# Altium schematic symbol library Component.SchLib: 23 symbols
Pins are listed as number, name and electrical type; pins without a type are passive.

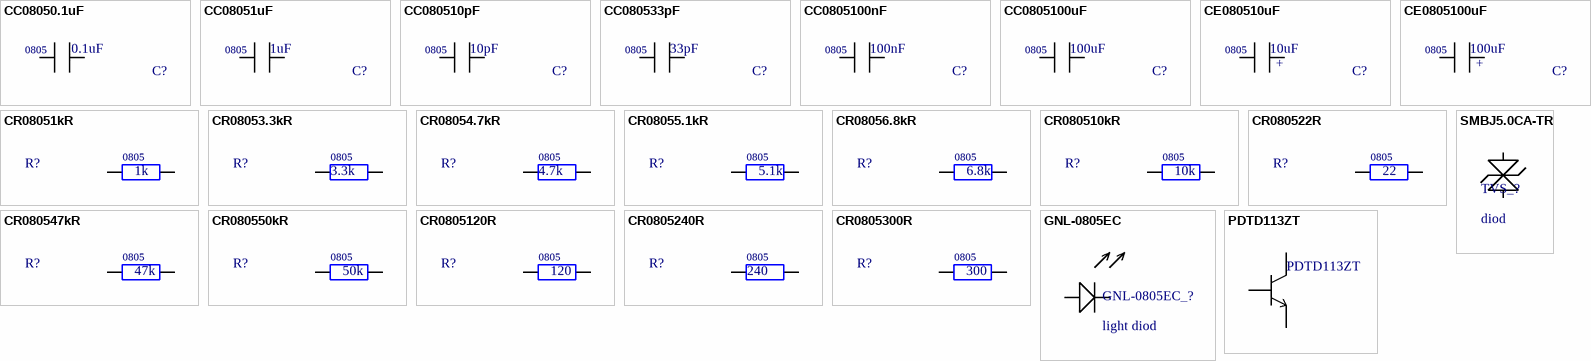
[diagram p0: symbols CC08050.1uF to SMBJ5.0CA-TR]

## CC08050.1uF
designator C?, comment capacitor  (value not drawn)
CC0805_0.1uF; Value: 0.1uF
footprint СС0805 (L = 2;  e=0.7; w=1.25)
pins: 2, 3
text: 0805

## CC08051uF
designator C?, comment capacitor  (value not drawn)
CC0805_1uF; Value: 1uF
footprint СС0805 (L = 2;  e=0.7; w=1.25)
pins: 2, 3
text: 0805

## CC080510pF
designator C?, comment capacitor  (value not drawn)
CC0808_10pF; Value: 10pF
footprint СС0805 (L = 2;  e=0.7; w=1.25)
pins: 2, 3
text: 0805

## CC080533pF
designator C?  (value not drawn)
CC0805_33pF; Value: 33pF
footprint СС0805 (L = 2;  e=0.7; w=1.25)
pins: 2, 3
text: 0805

## CC0805100nF
designator C?, comment capacitor  (value not drawn)
CC0805_100nF; Value: 100nF
footprint СС0805 (L = 2;  e=0.7; w=1.25)
pins: 2, 3
text: 0805

## CC0805100uF
designator C?, comment capacitor  (value not drawn)
CC0805_100uF; Value: 100uF
footprint СС0805 (L = 2;  e=0.7; w=1.25)
pins: 2, 3
text: 0805

## CE080510uF
designator C?, comment capacitor  (value not drawn)
CE0805_10uF; Value: 10uF
footprint CAP JAMOCON
pins: 2, 3
text: 0805; +

## CE0805100uF
designator C?, comment capacitor  (value not drawn)
CE0805_100uF JAMOCON; Value: 100uF
footprint CAP JAMOCON
pins: 2, 3
text: 0805; +

## CR08051kR
designator R?, comment Resistor  (value not drawn)
CR0805_1kR; Value: 1k
footprint R0805 (test_resisot H = 0.5+-0.1 l=0.35+-0.20  L = 2+-0.1)
pins: 0, 1
text: 0805

## CR08053.3kR
designator R?, comment Resistor  (value not drawn)
CR0805_3.3kR
footprint R0805 (test_resisot H = 0.5+-0.1 l=0.35+-0.20  L = 2+-0.1)
pins: 0, 1
text: 0805; 3.3k

## CR08054.7kR
designator R?, comment Resistor  (value not drawn)
CR0805_4.7kR; Value: 4.7k
footprint R0805 (test_resisot H = 0.5+-0.1 l=0.35+-0.20  L = 2+-0.1)
pins: 0, 1
text: 0805

## CR08055.1kR
designator R?, comment Resistor  (value not drawn)
CR08055.1kR; Value: 5.1k
footprint R0805 (test_resisot H = 0.5+-0.1 l=0.35+-0.20  L = 2+-0.1)
pins: 0, 1
text: 0805

## CR08056.8kR
designator R?, comment Resistor  (value not drawn)
CR0805_6.8kR; Value: 6.8k
footprint R0805 (test_resisot H = 0.5+-0.1 l=0.35+-0.20  L = 2+-0.1)
pins: 0, 1
text: 0805

## CR080510kR
designator R?, comment Resistor  (value not drawn)
CR0805_10kR; Value: 10k
footprint R0805 (test_resisot H = 0.5+-0.1 l=0.35+-0.20  L = 2+-0.1)
pins: 0, 1
text: 0805

## CR080522R
designator R?, comment Resistor  (value not drawn)
CR0805_22R; Value: 22
footprint R0805 (test_resisot H = 0.5+-0.1 l=0.35+-0.20  L = 2+-0.1)
pins: 0, 1
text: 0805

## CR080547kR
designator R?, comment Resistor  (value not drawn)
CR0805_47kR; Value: 47k
footprint R0805 (test_resisot H = 0.5+-0.1 l=0.35+-0.20  L = 2+-0.1)
pins: 0, 1
text: 0805

## CR080550kR
designator R?, comment Resistor  (value not drawn)
CR0805_50kR; Value: 50k
footprint R0805 (test_resisot H = 0.5+-0.1 l=0.35+-0.20  L = 2+-0.1)
pins: 0, 1
text: 0805

## CR0805120R
designator R?, comment Resistor  (value not drawn)
CR0805_120R; Value: 120
footprint R0805 (test_resisot H = 0.5+-0.1 l=0.35+-0.20  L = 2+-0.1)
pins: 0, 1
text: 0805

## CR0805240R
designator R?, comment Resistor  (value not drawn)
CR0805_240R; Value: 240
footprint R0805 (test_resisot H = 0.5+-0.1 l=0.35+-0.20  L = 2+-0.1)
pins: 0, 1
text: 0805

## CR0805300R
designator R?, comment Resistor  (value not drawn)
CR0805_300R; Value: 300
footprint R0805 (test_resisot H = 0.5+-0.1 l=0.35+-0.20  L = 2+-0.1)
pins: 0, 1
text: 0805

## GNL-0805EC
designator GNL-0805EC_?, comment light diod
footprint GNL-0805
pins: 0, 1

## PDTD113ZT
designator PDTD113ZT_?, comment transistor  (value not drawn)
footprint PDTD113ZT
pins: 4, 5, 6

## SMBJ5.0CA-TR
designator TVS_?, comment diod
TVS_Diod; Value: 5V
footprint SMBJ5.0CA-TR
pins: 0, 1